# Altium footprint library Terminal.PcbLib: 35 footprints (part 1 of 3)
Each footprint in its own frame and in the unit in brackets; x right, y up, seen from the top. Pads: shape width x height; smd on the part's side, far side on the other; paste and mask are expansions set on the pad; w line width, h text height; cw(c..) or ccw(c..) is an arc to the next point about the centre after c.
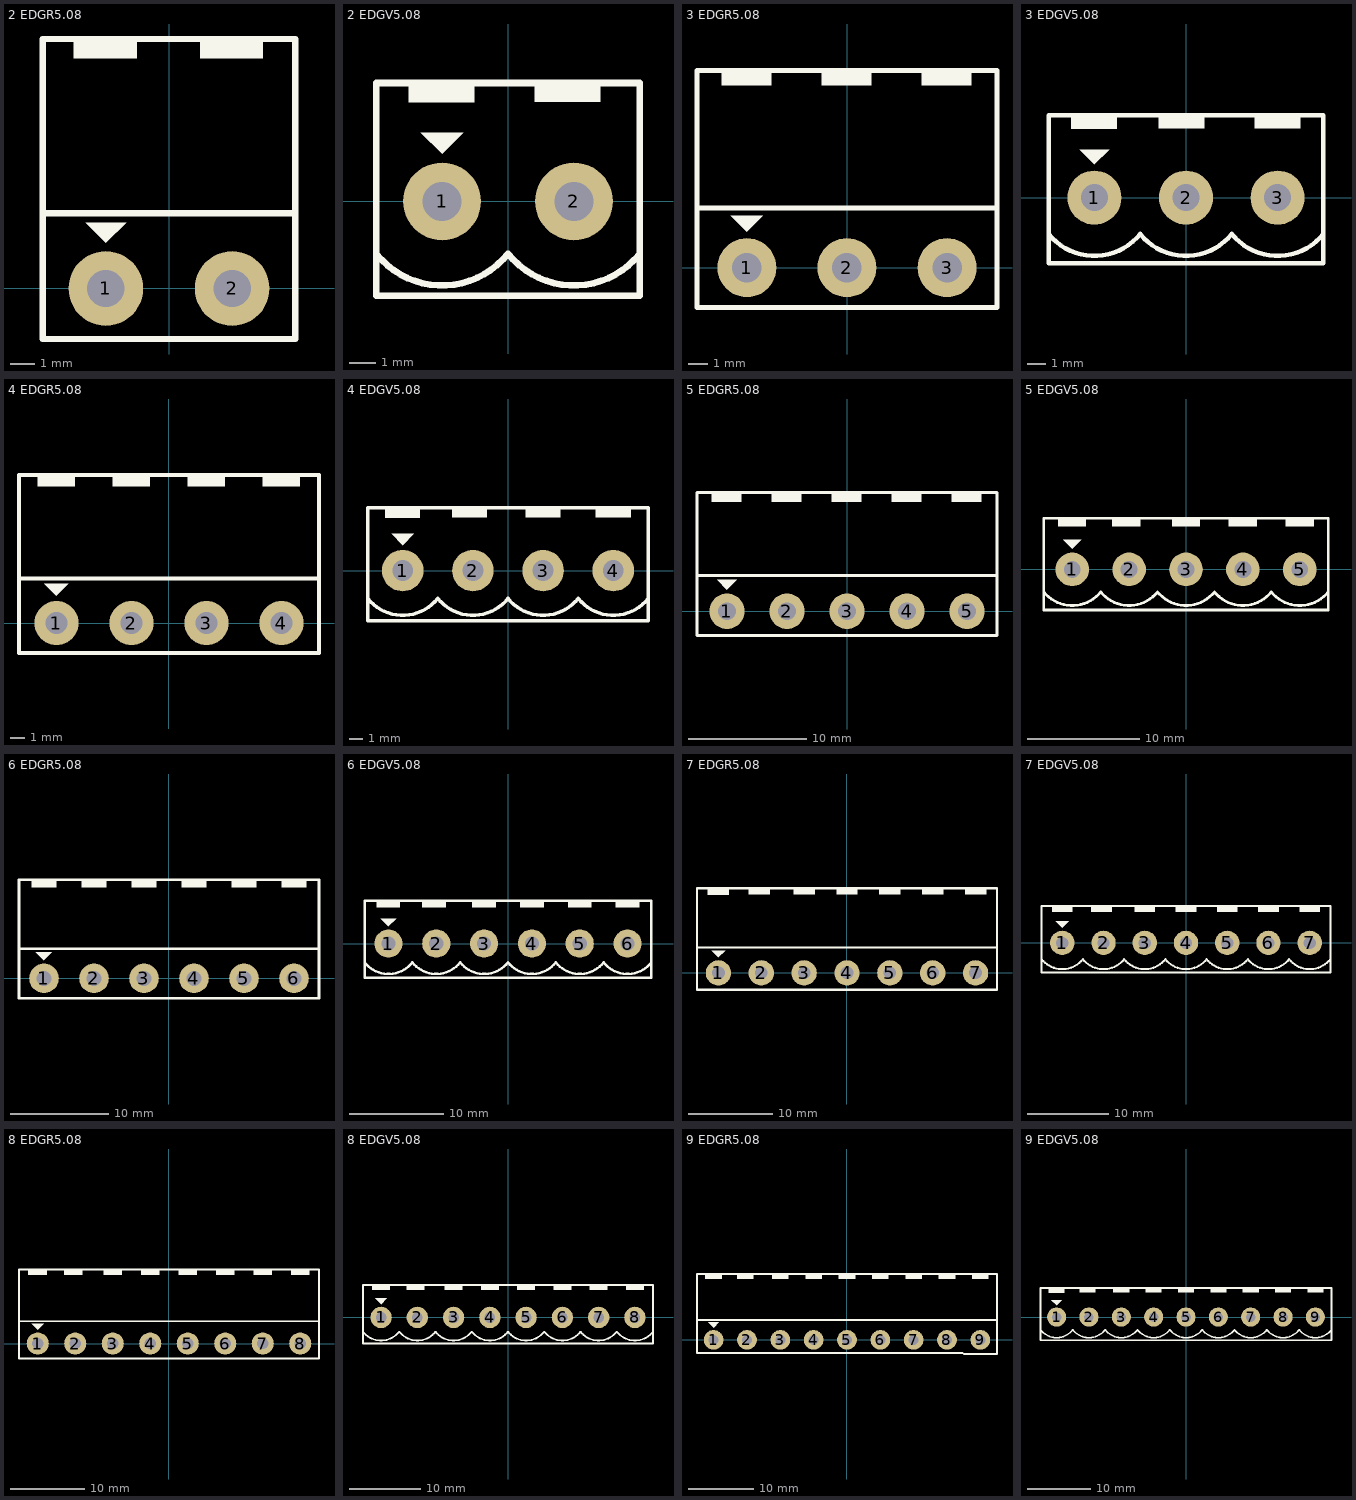
[diagram p0: the footprints below, top view; thin cyan lines are the x and y axes]

## 2 EDGR5.08 [mm]
pads (2):
  round 3 hole 1.5: 1(-2.54,0) 2(2.54,0)
Top Overlay:
  region: 3.787,10.015 1.247,10.015 1.247,9.253 3.787,9.253
  region: -1.293,10.015 -3.833,10.015 -3.833,9.253 -1.293,9.253
  region: -3.353,2.652 -1.727,2.652 -2.54,1.839
  lines w0.254: -5.055,3.025 5.08,3.025 ; -5.08,-2.032 5.08,-2.032 5.08,10.033 -5.08,10.033 -5.08,-2.032
3D body "cim0x9m5_right.step": height 8.48, standoff -3.38, extent -5.08,-2 0,10
3D body "cim0x9m5_right.step": height 8.48, standoff -3.38, extent 0,-2 5.08,10

## 2 EDGV5.08 [mm]
pads (2):
  round 3 hole 1.5: 1(-2.54,0) 2(2.54,0)
Top Overlay:
  region: -1.293,4.577 -3.833,4.577 -3.833,3.815 -1.293,3.815
  region: 3.556,4.595 1.016,4.595 1.016,3.833 3.556,3.833
  region: -3.353,2.652 -1.727,2.652 -2.54,1.839
  lines w0.254: -5.077,-2.012 ccw(c-2.54,0) 0,-2.008 ; 0.001,-2.009 ccw(c2.54,0) 5.077,-2.012 ; -5.08,-3.638 -5.08,4.562 5.077,4.562 5.077,-3.638 -5.08,-3.638
3D body "2EDGV-5.08-02P.stp": height 12.23, standoff -3.87, extent -5.08,-3.638 5.08,4.562

## 3 EDGR5.08 [mm]
pads (3):
  round 3 hole 1.5: 1(-5.086,0) 2(-0.006,0) 3(5.086,0)
Top Overlay:
  region: -3.839,10.015 -6.379,10.015 -6.379,9.253 -3.839,9.253
  region: 1.241,10.015 -1.299,10.015 -1.299,9.253 1.241,9.253
  region: 6.334,10.015 3.794,10.015 3.794,9.253 6.334,9.253
  region: -5.899,2.652 -4.274,2.652 -5.086,1.839
  lines w0.254: -7.601,3.025 7.626,3.025 ; 7.614,-2.032 -7.626,-2.032 -7.626,10.033 7.626,10.033 7.626,-2.032
3D body "cim0x9m5_right.step": height 8.48, standoff -3.38, extent 2.546,-2 7.626,10
3D body "cim0x9m5_right.step": height 8.48, standoff -3.38, extent -2.534,-2 2.546,10
3D body "cim0x9m5_right.step": height 8.48, standoff -3.38, extent -7.614,-2 -2.534,10

## 3 EDGV5.08 [mm]
pads (3):
  round 3 hole 1.5: 1(-5.08,0) 2(0,0) 3(5.08,0)
Top Overlay:
  region: -3.833,4.577 -6.373,4.577 -6.373,3.815 -3.833,3.815
  region: 6.35,4.595 3.81,4.595 3.81,3.833 6.35,3.833
  region: 1.016,4.595 -1.524,4.595 -1.524,3.833 1.016,3.833
  region: -5.893,2.652 -4.267,2.652 -5.08,1.839
  lines w0.254: -7.617,-2.012 ccw(c-5.08,0) -2.54,-2.008 ; -2.539,-2.009 ccw(c0,0) 2.537,-2.012 ; 2.543,-2.012 ccw(c5.08,0) 7.62,-2.008 ; -7.62,-3.638 -7.62,4.562 7.62,4.562 7.62,-3.638 -7.62,-3.638
3D body "2EDGV-5.08-03P.stp": height 12.23, standoff -3.87, extent -7.62,-3.638 7.62,4.562

## 4 EDGR5.08 [mm]
pads (4):
  round 3 hole 1.5: 1(-7.62,0) 2(-2.54,0) 3(2.54,0) 4(7.62,0)
Top Overlay:
  region: -6.373,10.015 -8.913,10.015 -8.913,9.253 -6.373,9.253
  region: -1.293,10.015 -3.833,10.015 -3.833,9.253 -1.293,9.253
  region: 3.787,10.015 1.247,10.015 1.247,9.253 3.787,9.253
  region: 8.867,10.015 6.327,10.015 6.327,9.253 8.867,9.253
  region: -8.433,2.652 -6.807,2.652 -7.62,1.839
  lines w0.254: -10.135,3.025 10.16,3.025 ; -10.16,-2.032 10.16,-2.032 10.16,10.033 -10.16,10.033 -10.16,-2.032
3D body "cim0x9m5_right.step": height 8.48, standoff -3.38, extent -10.16,-2 -5.08,10
3D body "cim0x9m5_right.step": height 8.48, standoff -3.38, extent -5.08,-2 0,10
3D body "cim0x9m5_right.step": height 8.48, standoff -3.38, extent 0,-2 5.08,10
3D body "cim0x9m5_right.step": height 8.48, standoff -3.38, extent 5.08,-2 10.16,10

## 4 EDGV5.08 [mm]
pads (4):
  round 3 hole 1.5: 1(-7.62,0) 2(-2.54,0) 3(2.54,0) 4(7.62,0)
Top Overlay:
  region: -1.524,4.595 -4.064,4.595 -4.064,3.833 -1.524,3.833
  region: 3.81,4.595 1.27,4.595 1.27,3.833 3.81,3.833
  region: 8.89,4.595 6.35,4.595 6.35,3.833 8.89,3.833
  region: -6.373,4.577 -8.913,4.577 -8.913,3.815 -6.373,3.815
  region: -8.433,2.652 -6.807,2.652 -7.62,1.839
  lines w0.254: -10.157,-2.012 ccw(c-7.62,0) -5.08,-2.008 ; -5.079,-2.009 ccw(c-2.54,0) -0.003,-2.012 ; 0.003,-2.012 ccw(c2.54,0) 5.08,-2.008 ; 5.081,-2.009 ccw(c7.62,0) 10.157,-2.012 ; -10.16,-3.638 10.157,-3.638 10.157,4.562 -10.16,4.562 -10.16,-3.638
3D body "2EDGV-5.08-04P.stp": height 12.23, standoff -3.87, extent -10.16,-3.638 10.16,4.562

## 5 EDGR5.08 [mm]
pads (5):
  round 3 hole 1.5: 1(-10.16,0) 2(-5.08,0) 3(0,0) 4(5.08,0) 5(10.16,0)
Top Overlay:
  region: -8.913,10.015 -11.453,10.015 -11.453,9.253 -8.913,9.253
  region: -3.833,10.015 -6.373,10.015 -6.373,9.253 -3.833,9.253
  region: 1.247,10.015 -1.293,10.015 -1.293,9.253 1.247,9.253
  region: 6.327,10.015 3.787,10.015 3.787,9.253 6.327,9.253
  region: 11.407,10.015 8.867,10.015 8.867,9.253 11.407,9.253
  region: -10.973,2.652 -9.347,2.652 -10.16,1.839
  lines w0.254: -12.675,3.025 12.7,3.025 ; -12.7,-2.032 12.7,-2.032 12.7,10.033 -12.7,10.033 -12.7,-2.032
3D body "cim0x9m5_right.step": height 8.48, standoff -3.38, extent -12.7,-2 -7.62,10
3D body "cim0x9m5_right.step": height 8.48, standoff -3.38, extent -7.62,-2 -2.54,10
3D body "cim0x9m5_right.step": height 8.48, standoff -3.38, extent -2.54,-2 2.54,10
3D body "cim0x9m5_right.step": height 8.48, standoff -3.38, extent 2.54,-2 7.62,10
3D body "cim0x9m5_right.step": height 8.48, standoff -3.38, extent 7.62,-2 12.7,10

## 5 EDGV5.08 [mm]
pads (5):
  round 3 hole 1.5: 1(-10.16,0) 2(-5.08,0) 3(0,0) 4(5.08,0) 5(10.16,0)
Top Overlay:
  region: -8.913,4.577 -11.453,4.577 -11.453,3.815 -8.913,3.815
  region: 11.43,4.595 8.89,4.595 8.89,3.833 11.43,3.833
  region: 6.35,4.595 3.81,4.595 3.81,3.833 6.35,3.833
  region: 1.27,4.595 -1.27,4.595 -1.27,3.833 1.27,3.833
  region: -4.064,4.595 -6.604,4.595 -6.604,3.833 -4.064,3.833
  region: -10.973,2.652 -9.347,2.652 -10.16,1.839
  lines w0.254: -12.697,-2.012 ccw(c-10.16,0) -7.62,-2.008 ; -7.619,-2.009 ccw(c-5.08,0) -2.543,-2.012 ; -2.537,-2.012 ccw(c0,0) 2.54,-2.008 ; 2.541,-2.009 ccw(c5.08,0) 7.617,-2.012 ; 7.623,-2.012 ccw(c10.16,0) 12.7,-2.008 ; -12.7,-3.638 -12.7,4.562 12.7,4.562 12.7,-3.638 -12.7,-3.638
3D body "2EDGV-5.08-05P.stp": height 12.23, standoff -3.87, extent -12.7,-3.638 12.7,4.562

## 6 EDGR5.08 [mm]
pads (6):
  round 3 hole 1.5: 1(-12.7,0) 2(-7.62,0) 3(-2.54,0) 4(2.54,0) 5(7.62,0) 6(12.7,0)
Top Overlay:
  region: -11.453,10.015 -13.993,10.015 -13.993,9.253 -11.453,9.253
  region: -6.373,10.015 -8.913,10.015 -8.913,9.253 -6.373,9.253
  region: -1.293,10.015 -3.833,10.015 -3.833,9.253 -1.293,9.253
  region: 3.787,10.015 1.247,10.015 1.247,9.253 3.787,9.253
  region: 8.867,10.015 6.327,10.015 6.327,9.253 8.867,9.253
  region: 13.947,10.015 11.407,10.015 11.407,9.253 13.947,9.253
  region: -13.513,2.652 -11.887,2.652 -12.7,1.839
  lines w0.254: -15.215,3.025 15.23,3.025 ; -15.24,-2.032 15.24,-2.032 15.24,10.033 -15.24,10.033 -15.24,-2.032
3D body "cim0x9m5_right.step": height 8.48, standoff -3.38, extent 10.16,-2 15.24,10
3D body "cim0x9m5_right.step": height 8.48, standoff -3.38, extent 5.08,-2 10.16,10
3D body "cim0x9m5_right.step": height 8.48, standoff -3.38, extent 0,-2 5.08,10
3D body "cim0x9m5_right.step": height 8.48, standoff -3.38, extent -5.08,-2 0,10
3D body "cim0x9m5_right.step": height 8.48, standoff -3.38, extent -10.16,-2 -5.08,10
3D body "cim0x9m5_right.step": height 8.48, standoff -3.38, extent -15.24,-2 -10.16,10

## 6 EDGV5.08 [mm]
pads (6):
  round 3 hole 1.5: 1(-12.7,0) 2(-7.62,0) 3(-2.54,0) 4(2.54,0) 5(7.62,0) 6(12.7,0)
Top Overlay:
  region: -11.453,4.577 -13.993,4.577 -13.993,3.815 -11.453,3.815
  region: 13.97,4.595 11.43,4.595 11.43,3.833 13.97,3.833
  region: 8.89,4.595 6.35,4.595 6.35,3.833 8.89,3.833
  region: 3.81,4.595 1.27,4.595 1.27,3.833 3.81,3.833
  region: -1.27,4.595 -3.81,4.595 -3.81,3.833 -1.27,3.833
  region: -6.604,4.595 -9.144,4.595 -9.144,3.833 -6.604,3.833
  region: -13.513,2.652 -11.887,2.652 -12.7,1.839
  lines w0.254: -15.237,-2.012 ccw(c-12.7,0) -10.16,-2.008 ; -10.159,-2.009 ccw(c-7.62,0) -5.083,-2.012 ; -5.077,-2.012 ccw(c-2.54,0) 0,-2.008 ; 0.001,-2.009 ccw(c2.54,0) 5.077,-2.012 ; 5.083,-2.012 ccw(c7.62,0) 10.16,-2.008 ; 10.161,-2.009 ccw(c12.7,0) 15.237,-2.012 ; -15.24,-3.638 -15.24,4.562 15.237,4.562 15.237,-3.638 -15.24,-3.638
3D body "2EDGV-5.08-06P.stp": height 12.23, standoff -3.87, extent -15.24,-3.638 15.24,4.562

## 7 EDGR5.08 [mm]
pads (7):
  round 3 hole 1.5: 1(-15.24,0) 2(-10.16,0) 3(-5.08,0) 4(0,0) 5(5.08,0) 6(10.16,0) 7(15.24,0)
Top Overlay:
  region: -13.993,10.015 -16.533,10.015 -16.533,9.253 -13.993,9.253
  region: 11.43,10.033 8.89,10.033 8.89,9.271 11.43,9.271
  region: 6.35,10.033 3.81,10.033 3.81,9.271 6.35,9.271
  region: 1.27,10.033 -1.27,10.033 -1.27,9.271 1.27,9.271
  region: -3.81,10.033 -6.35,10.033 -6.35,9.271 -3.81,9.271
  region: -9.144,10.033 -11.684,10.033 -11.684,9.271 -9.144,9.271
  region: 16.51,10.033 13.97,10.033 13.97,9.271 16.51,9.271
  region: -16.053,2.652 -14.427,2.652 -15.24,1.839
  lines w0.254: -17.755,3.025 17.78,3.025 ; -17.78,-2 -17.78,10.033 17.78,10.033 17.78,-2 -17.78,-2
3D body "cim0x9m5_right.step": height 8.48, standoff -3.38, extent -17.78,-2 -12.7,10
3D body "cim0x9m5_right.step": height 8.48, standoff -3.38, extent -12.7,-2 -7.62,10
3D body "cim0x9m5_right.step": height 8.48, standoff -3.38, extent -7.62,-2 -2.54,10
3D body "cim0x9m5_right.step": height 8.48, standoff -3.38, extent 2.54,-2 7.62,10
3D body "cim0x9m5_right.step": height 8.48, standoff -3.38, extent 7.62,-2 12.7,10
3D body "cim0x9m5_right.step": height 8.48, standoff -3.38, extent 12.7,-2 17.78,10
3D body "cim0x9m5_right.step": height 8.48, standoff -3.38, extent -2.54,-2 2.54,10

## 7 EDGV5.08 [mm]
pads (7):
  round 3 hole 1.5: 1(-15.24,0) 2(-10.16,0) 3(-5.08,0) 4(0,0) 5(5.08,0) 6(10.16,0) 7(15.24,0)
Top Overlay:
  region: 16.51,4.595 13.97,4.595 13.97,3.833 16.51,3.833
  region: -9.144,4.595 -11.684,4.595 -11.684,3.833 -9.144,3.833
  region: -3.81,4.595 -6.35,4.595 -6.35,3.833 -3.81,3.833
  region: 1.27,4.595 -1.27,4.595 -1.27,3.833 1.27,3.833
  region: 6.35,4.595 3.81,4.595 3.81,3.833 6.35,3.833
  region: 11.43,4.595 8.89,4.595 8.89,3.833 11.43,3.833
  region: -13.993,4.577 -16.533,4.577 -16.533,3.815 -13.993,3.815
  region: -16.053,2.652 -14.427,2.652 -15.24,1.839
  lines w0.254: -17.777,-2.012 ccw(c-15.24,0) -12.7,-2.008 ; -12.699,-2.009 ccw(c-10.16,0) -7.623,-2.012 ; -7.617,-2.012 ccw(c-5.08,0) -2.54,-2.008 ; -2.539,-2.009 ccw(c0,0) 2.537,-2.012 ; 2.543,-2.012 ccw(c5.08,0) 7.62,-2.008 ; 7.621,-2.009 ccw(c10.16,0) 12.697,-2.012 ; 12.703,-2.012 ccw(c15.24,0) 17.78,-2.008 ; -17.78,-3.638 17.78,-3.638 17.78,4.562 -17.78,4.562 -17.78,-3.638
3D body "2EDGV-5.08-07P.stp": height 12.23, standoff -3.87, extent -17.78,-3.638 17.78,4.562

## 8 EDGR5.08 [mm]
pads (8):
  round 3 hole 1.5: 1(-17.78,0) 2(-12.7,0) 3(-7.62,0) 4(-2.54,0) 5(2.54,0) 6(7.62,0) 7(12.7,0) 8(17.78,0)
Top Overlay:
  region: 13.97,10.033 11.43,10.033 11.43,9.271 13.97,9.271
  region: 19.05,10.033 16.51,10.033 16.51,9.271 19.05,9.271
  region: -11.684,10.033 -14.224,10.033 -14.224,9.271 -11.684,9.271
  region: -6.35,10.033 -8.89,10.033 -8.89,9.271 -6.35,9.271
  region: -1.27,10.033 -3.81,10.033 -3.81,9.271 -1.27,9.271
  region: 3.81,10.033 1.27,10.033 1.27,9.271 3.81,9.271
  region: 8.89,10.033 6.35,10.033 6.35,9.271 8.89,9.271
  region: -16.533,10.015 -19.073,10.015 -19.073,9.253 -16.533,9.253
  region: -18.593,2.652 -16.967,2.652 -17.78,1.839
  lines w0.254: -20.295,3.025 20.32,3.025 ; -20.32,-2.032 -20.32,10.033 20.32,10.033 20.32,-2.032 -20.32,-2.032
3D body "cim0x9m5_right.step": height 8.48, standoff -3.38, extent -20.32,-2 -15.24,10
3D body "cim0x9m5_right.step": height 8.48, standoff -3.38, extent -5.08,-2 0,10
3D body "cim0x9m5_right.step": height 8.48, standoff -3.38, extent 0,-2 5.08,10
3D body "cim0x9m5_right.step": height 8.48, standoff -3.38, extent 5.08,-2 10.16,10
3D body "cim0x9m5_right.step": height 8.48, standoff -3.38, extent 10.16,-2 15.24,10
3D body "cim0x9m5_right.step": height 8.48, standoff -3.38, extent 15.24,-2 20.32,10
3D body "cim0x9m5_right.step": height 8.48, standoff -3.38, extent -15.24,-2 -10.16,10
3D body "cim0x9m5_right.step": height 8.48, standoff -3.38, extent -10.16,-2 -5.08,10

## 8 EDGV5.08 [mm]
pads (8):
  round 3 hole 1.5: 1(-17.78,0) 2(-12.7,0) 3(-7.62,0) 4(-2.54,0) 5(2.54,0) 6(7.62,0) 7(12.7,0) 8(17.78,0)
Top Overlay:
  region: -16.533,4.577 -19.073,4.577 -19.073,3.815 -16.533,3.815
  region: 8.89,4.595 6.35,4.595 6.35,3.833 8.89,3.833
  region: 3.81,4.595 1.27,4.595 1.27,3.833 3.81,3.833
  region: -1.27,4.595 -3.81,4.595 -3.81,3.833 -1.27,3.833
  region: -6.35,4.595 -8.89,4.595 -8.89,3.833 -6.35,3.833
  region: -11.684,4.595 -14.224,4.595 -14.224,3.833 -11.684,3.833
  region: 19.05,4.595 16.51,4.595 16.51,3.833 19.05,3.833
  region: 13.97,4.595 11.43,4.595 11.43,3.833 13.97,3.833
  region: -18.593,2.652 -16.967,2.652 -17.78,1.839
  lines w0.254: -20.317,-2.012 ccw(c-17.78,0) -15.24,-2.008 ; -15.239,-2.009 ccw(c-12.7,0) -10.163,-2.012 ; -10.157,-2.012 ccw(c-7.62,0) -5.08,-2.008 ; -5.079,-2.009 ccw(c-2.54,0) -0.003,-2.012 ; 0.003,-2.012 ccw(c2.54,0) 5.08,-2.008 ; 5.081,-2.009 ccw(c7.62,0) 10.157,-2.012 ; 10.163,-2.012 ccw(c12.7,0) 15.24,-2.008 ; 15.241,-2.009 ccw(c17.78,0) 20.317,-2.012 ; -20.32,-3.638 -20.32,4.562 20.317,4.562 20.317,-3.638 -20.32,-3.638
3D body "2EDGV-5.08-08P.stp": height 12.23, standoff -3.87, extent -20.32,-3.638 20.32,4.562

## 9 EDGR5.08 [mm]
pads (9):
  round 3 hole 1.5: 1(-20.32,0) 2(-15.24,0) 3(-10.16,0) 4(-5.08,0) 5(0,0) 6(5.08,0) 7(10.16,0) 8(15.24,0) 9(20.32,0)
Top Overlay:
  region: 21.59,10.033 19.05,10.033 19.05,9.271 21.59,9.271
  region: -19.073,10.015 -21.613,10.015 -21.613,9.253 -19.073,9.253
  region: 6.35,10.033 3.81,10.033 3.81,9.271 6.35,9.271
  region: 1.27,10.033 -1.27,10.033 -1.27,9.271 1.27,9.271
  region: -3.81,10.033 -6.35,10.033 -6.35,9.271 -3.81,9.271
  region: -8.89,10.033 -11.43,10.033 -11.43,9.271 -8.89,9.271
  region: -14.224,10.033 -16.764,10.033 -16.764,9.271 -14.224,9.271
  region: 16.51,10.033 13.97,10.033 13.97,9.271 16.51,9.271
  region: 11.43,10.033 8.89,10.033 8.89,9.271 11.43,9.271
  region: -21.133,2.652 -19.507,2.652 -20.32,1.839
  lines w0.254: -22.835,3.025 17.78,3.025 22.86,3.025 ; -22.86,-2.01 17.631,-2.01 17.78,-2.159 22.86,-2.159 22.86,10.033 -22.86,10.033 -22.86,-2.01
3D body "cim0x9m5_right.step": height 8.48, standoff -3.38, extent -17.78,-2 -12.7,10
3D body "cim0x9m5_right.step": height 8.48, standoff -3.38, extent -7.62,-2 -2.54,10
3D body "cim0x9m5_right.step": height 8.48, standoff -3.38, extent 17.78,-2 22.86,10
3D body "cim0x9m5_right.step": height 8.48, standoff -3.38, extent 12.7,-2 17.78,10
3D body "cim0x9m5_right.step": height 8.48, standoff -3.38, extent 7.62,-2 12.7,10
3D body "cim0x9m5_right.step": height 8.48, standoff -3.38, extent 2.54,-2 7.62,10
3D body "cim0x9m5_right.step": height 8.48, standoff -3.38, extent -2.54,-2 2.54,10
3D body "cim0x9m5_right.step": height 8.48, standoff -3.38, extent -12.7,-2 -7.62,10
3D body "cim0x9m5_right.step": height 8.48, standoff -3.38, extent -22.86,-2 -17.78,10

## 9 EDGV5.08 [mm]
pads (9):
  round 3 hole 1.5: 1(-20.32,0) 2(-15.24,0) 3(-10.16,0) 4(-5.08,0) 5(0,0) 6(5.08,0) 7(10.16,0) 8(15.24,0) 9(20.32,0)
Top Overlay:
  region: 21.59,4.595 19.05,4.595 19.05,3.833 21.59,3.833
  region: -19.073,4.577 -21.613,4.577 -21.613,3.815 -19.073,3.815
  region: 6.35,4.595 3.81,4.595 3.81,3.833 6.35,3.833
  region: 1.27,4.595 -1.27,4.595 -1.27,3.833 1.27,3.833
  region: -3.81,4.595 -6.35,4.595 -6.35,3.833 -3.81,3.833
  region: -8.89,4.595 -11.43,4.595 -11.43,3.833 -8.89,3.833
  region: -14.224,4.595 -16.764,4.595 -16.764,3.833 -14.224,3.833
  region: 16.51,4.595 13.97,4.595 13.97,3.833 16.51,3.833
  region: 11.43,4.595 8.89,4.595 8.89,3.833 11.43,3.833
  region: -21.133,2.652 -19.507,2.652 -20.32,1.839
  lines w0.254: -22.857,-2.012 ccw(c-20.32,0) -17.78,-2.008 ; -17.779,-2.009 ccw(c-15.24,0) -12.703,-2.012 ; -12.697,-2.012 ccw(c-10.16,0) -7.62,-2.008 ; -7.619,-2.009 ccw(c-5.08,0) -2.543,-2.012 ; -2.537,-2.012 ccw(c0,0) 2.54,-2.008 ; 2.541,-2.009 ccw(c5.08,0) 7.617,-2.012 ; 7.623,-2.012 ccw(c10.16,0) 12.7,-2.008 ; 12.701,-2.009 ccw(c15.24,0) 17.777,-2.012 ; 17.783,-2.012 ccw(c20.32,0) 22.86,-2.008 ; -22.86,-3.638 -22.86,4.562 22.86,4.562 22.86,-3.638 -22.86,-3.638
3D body "2EDGV-5.08-09P.stp": height 12.23, standoff -3.87, extent -22.86,-3.638 22.86,4.562